# Altium schematic symbol library p-mosfet_2.Schlib: 1 symbol
Pins are listed as number, name and electrical type; pins without a type are passive.

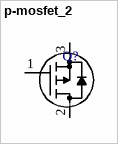
[diagram p0: symbol p-mosfet_2]

## p-mosfet_2
designator Q?  (value not drawn)
P-Channel MOSFET w/ Body Diode, for TO-220
pins: 1 G, 2 D, 3 S